# EAGLE library part HIF43BA-40PA_DOUBLE (library TheMaker_con-HRS)
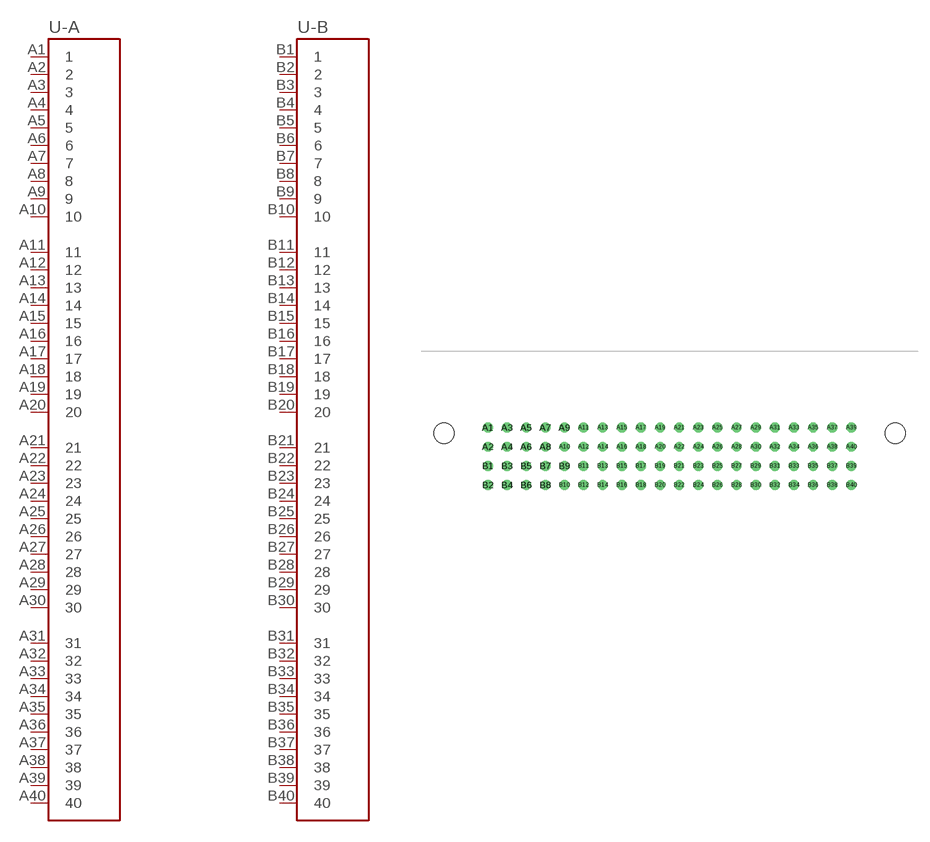
[diagram p0: symbol with the pads of HIF3B_40PX2; footprint HIF3B_40PX2]

Designator prefix -; gates -A=40P -B=40P

## HIF43BA-40PA_DOUBLE  [HIF3B_40PX2]
A1  -A:1
A2  -A:2
A3  -A:3
A4  -A:4
A5  -A:5
A6  -A:6
A7  -A:7
A8  -A:8
A9  -A:9
A10  -A:10
A11  -A:11
A12  -A:12
A13  -A:13
A14  -A:14
A15  -A:15
A16  -A:16
A17  -A:17
A18  -A:18
A19  -A:19
A20  -A:20
A21  -A:21
A22  -A:22
A23  -A:23
A24  -A:24
A25  -A:25
A26  -A:26
A27  -A:27
A28  -A:28
A29  -A:29
A30  -A:30
A31  -A:31
A32  -A:32
A33  -A:33
A34  -A:34
A35  -A:35
A36  -A:36
A37  -A:37
A38  -A:38
A39  -A:39
A40  -A:40
B1  -B:1
B2  -B:2
B3  -B:3
B4  -B:4
B5  -B:5
B6  -B:6
B7  -B:7
B8  -B:8
B9  -B:9
B10  -B:10
B11  -B:11
B12  -B:12
B13  -B:13
B14  -B:14
B15  -B:15
B16  -B:16
B17  -B:17
B18  -B:18
B19  -B:19
B20  -B:20
B21  -B:21
B22  -B:22
B23  -B:23
B24  -B:24
B25  -B:25
B26  -B:26
B27  -B:27
B28  -B:28
B29  -B:29
B30  -B:30
B31  -B:31
B32  -B:32
B33  -B:33
B34  -B:34
B35  -B:35
B36  -B:36
B37  -B:37
B38  -B:38
B39  -B:39
B40  -B:40

## Footprint HIF3B_40PX2 (pad centres in mm)
drill 0.8: A1 -24.13,0; A2 -24.13,-2.54; A3 -21.59,0; A4 -21.59,-2.54; A5 -19.05,0; A6 -19.05,-2.54; A7 -16.51,0; A8 -16.51,-2.54; A9 -13.97,0; A10 -13.97,-2.54; A11 -11.43,0; A12 -11.43,-2.54; A13 -8.89,0; A14 -8.89,-2.54; A15 -6.35,0; A16 -6.35,-2.54; A17 -3.81,0; A18 -3.81,-2.54; A19 -1.27,0; A20 -1.27,-2.54; A21 1.27,0; A22 1.27,-2.54; A23 3.81,0; A24 3.81,-2.54; A25 6.35,0; A26 6.35,-2.54; A27 8.89,0; A28 8.89,-2.54; A29 11.43,0; A30 11.43,-2.54; A31 13.97,0; A32 13.97,-2.54; A33 16.51,0; A34 16.51,-2.54; A35 19.05,0; A36 19.05,-2.54; A37 21.59,0; A38 21.59,-2.54; A39 24.13,0; A40 24.13,-2.54; B1 -24.13,-5.08; B2 -24.13,-7.62; B3 -21.59,-5.08; B4 -21.59,-7.62; B5 -19.05,-5.08; B6 -19.05,-7.62; B7 -16.51,-5.08; B8 -16.51,-7.62; B9 -13.97,-5.08; B10 -13.97,-7.62; B11 -11.43,-5.08; B12 -11.43,-7.62; B13 -8.89,-5.08; B14 -8.89,-7.62; B15 -6.35,-5.08; B16 -6.35,-7.62; B17 -3.81,-5.08; B18 -3.81,-7.62; B19 -1.27,-5.08; B20 -1.27,-7.62; B21 1.27,-5.08; B22 1.27,-7.62; B23 3.81,-5.08; B24 3.81,-7.62; B25 6.35,-5.08; B26 6.35,-7.62; B27 8.89,-5.08; B28 8.89,-7.62; B29 11.43,-5.08; B30 11.43,-7.62; B31 13.97,-5.08; B32 13.97,-7.62; B33 16.51,-5.08; B34 16.51,-7.62; B35 19.05,-5.08; B36 19.05,-7.62; B37 21.59,-5.08; B38 21.59,-7.62; B39 24.13,-5.08; B40 24.13,-7.62
hole 2.7 at -29.95,-0.74
hole 2.7 at 29.95,-0.74